# Altium footprint library MOLEX_39281083.PcbLib: 1 footprints
Each footprint in its own frame and in the unit in brackets; x right, y up, seen from the top. Pads: shape width x height; smd on the part's side, far side on the other; paste and mask are expansions set on the pad; w line width, h text height; cw(c..) or ccw(c..) is an arc to the next point about the centre after c.
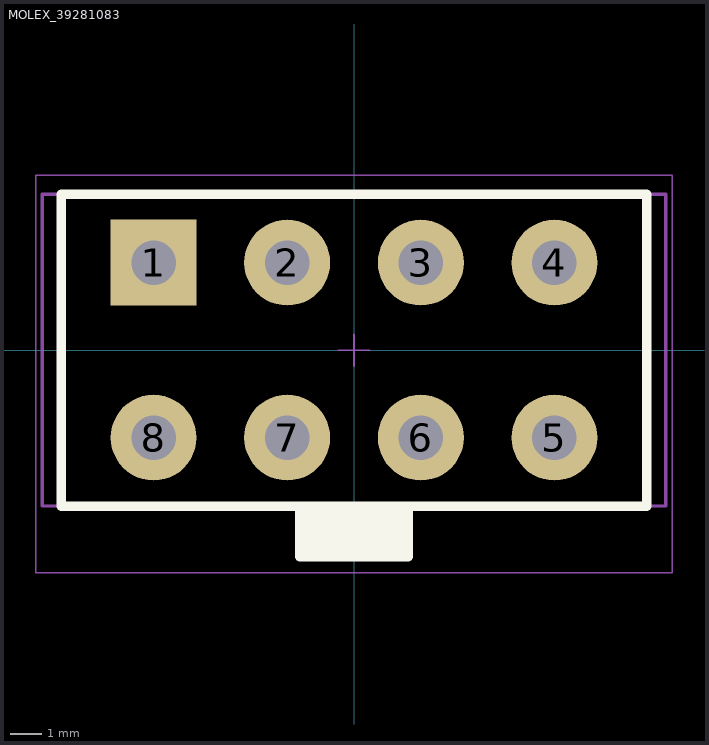
[diagram p0: the footprint, top view; thin cyan lines are the x and y axes]

## MOLEX_39281083 [mm]
height 13.1
pads (8):
  rect 2.7x2.7 hole 1.4 mask+0.05: 1(-6.3,2.75)
  round 2.7 hole 1.4 mask+0.05: 2(-2.1,2.75) 3(2.1,2.75) 4(6.3,2.75) 5(6.3,-2.75) 6(2.1,-2.75) 7(-2.1,-2.75) 8(-6.3,-2.75)
Top Overlay:
  region: 1.7,-4.9 -1.7,-4.9 -1.7,-6.5 1.7,-6.5
  lines w0.3: -1.7,-4.9 -9.2,-4.9 -9.2,4.9 9.2,4.9 9.2,-4.9 1.7,-4.9 ; -1.7,-4.9 1.7,-4.9 ; -1.7,-4.9 -1.7,-6.5 1.7,-6.5 1.7,-4.9
Top 3D Body:
  lines w0.1: -9.8,-4.9 -9.8,4.9 9.8,4.9 9.8,-4.9 -9.8,-4.9
Top Courtyard (Mech15):
  lines w0.05: -0.5,0 0.5,0 ; 0,-0.5 0,0.5 ; -10,-7 -10,5.5 10,5.5 10,-7 -10,-7
3D body "MOLEX_39281083.stp": height 12.8, standoff -3.5, extent -9.4,-6 9.4,5